# EAGLE library part OPA234 (library op-amp)
OP-AMP
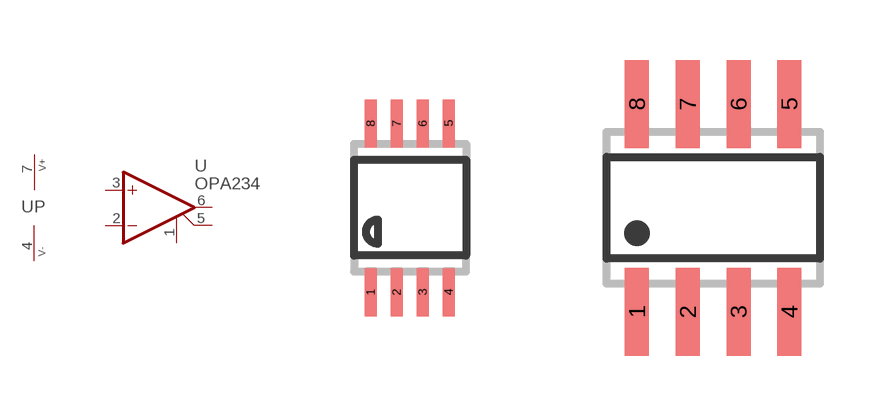
[diagram p23: symbol with the pads of MSOP08; footprints MSOP08, SO08]

Designator prefix U; gates G$1=OPAMP_PV G$2=_TRIM P=PWRN_V+-

## OPA234E  [MSOP08]
1  G$2:TRIM1  pas
2  G$1:-IN  in
3  G$1:+IN  in
4  P:V-  pwr
5  G$2:TRIM2  pas
6  G$1:OUT  out
7  P:V+  pwr

## OPA234U  [SO08]
Pads as for MSOP08

## Footprint MSOP08 (pad centres in mm)
Mini Small Outline Package
smd 0.3 x 1.2: 1 -0.976,-2.113; 2 -0.326,-2.113; 3 0.324,-2.113; 4 0.974,-2.113; 5 0.974,2.112; 6 0.324,2.112; 7 -0.326,2.112; 8 -0.976,2.112

## Footprint SO08 (pad centres in mm)
SMALL OUTLINE INTEGRATED CIRCUIT body 3.9 mm/JEDEC MS-012AA
smd 0.6 x 2.2: 1 -1.905,-2.6; 2 -0.635,-2.6; 3 0.635,-2.6; 4 1.905,-2.6; 5 1.905,2.6; 6 0.635,2.6; 7 -0.635,2.6; 8 -1.905,2.6